# Altium footprint library SamacSys.PcbLib: 17 footprints (part 1 of 2)
Each footprint in its own frame and in the unit in brackets; x right, y up, seen from the top. Pads: shape width x height; smd on the part's side, far side on the other; paste and mask are expansions set on the pad; w line width, h text height; cw(c..) or ccw(c..) is an arc to the next point about the centre after c.
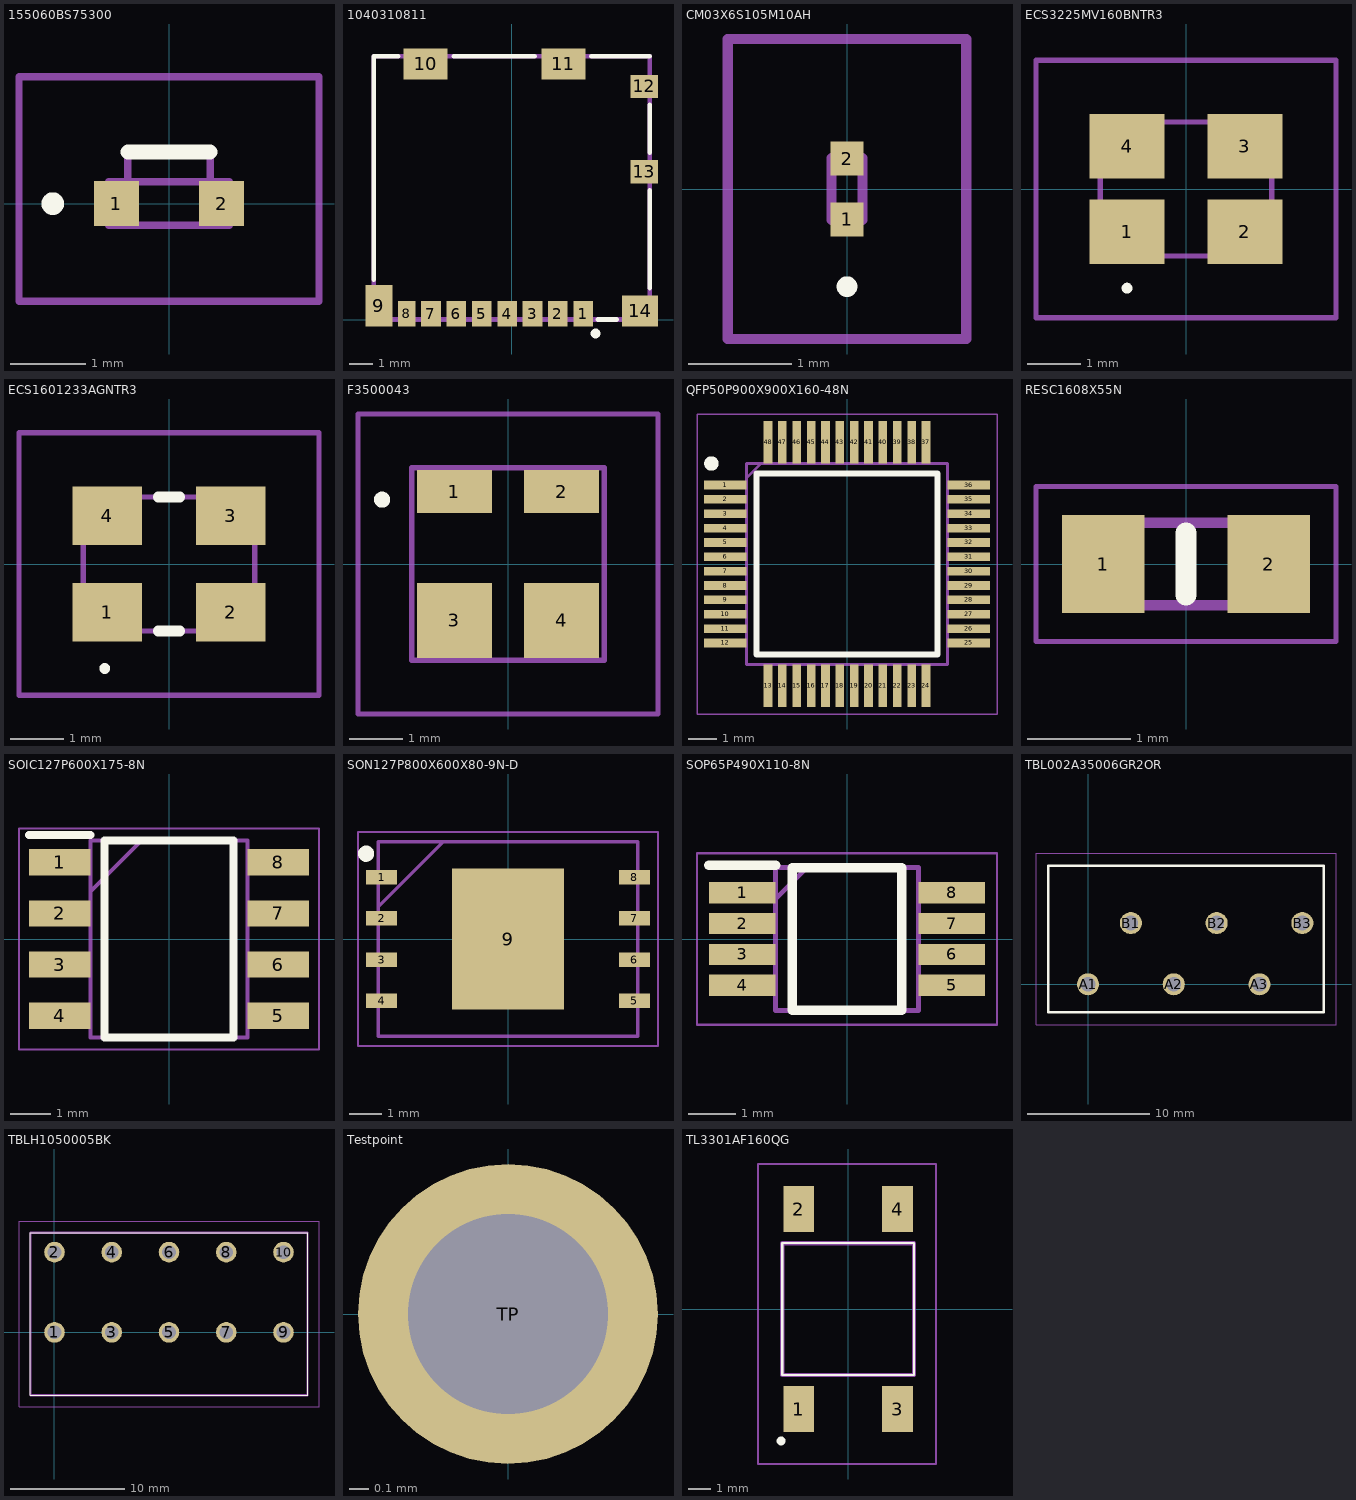
[diagram p0: the footprints below, top view; thin cyan lines are the x and y axes]

## 155060BS75300 [mm]
pads (2):
  rect 0.6x0.6 smd: 1(-0.7,0) 2(0.7,0)
Top Overlay:
  lines w0.2: -0.55,0.69 0.55,0.69 ; -1.6,0 cw(c-1.55,0) -1.5,0 ; -1.6,0 ccw(c-1.55,0) -1.5,0 ; -1.6,0 -1.5,0
Mechanical 13:
  lines w0.1: -0.8,-0.29 -0.8,0.29 0.8,0.29 0.8,-0.29 -0.8,-0.29 ; -0.55,0.29 -0.55,0.69 0.55,0.69 0.55,0.29 -0.55,0.29
Mechanical 15:
  lines w0.1: -2,-1.3 -2,1.69 2,1.69 2,-1.3 -2,-1.3
3D body "155060BS75300.stp": height 1, standoff 0, extent -0.8,-0.31 0.8,0.69

## 1040310811 [mm]
pads (14):
  rect 0.85x1.1 smd: 1(3.105,0.25) 2(2.005,0.25) 3(0.905,0.25) 4(-0.195,0.25) 5(-1.295,0.25) 6(-2.395,0.25) 7(-3.495,0.25)
  rect 0.75x1.1 smd: 8(-4.545,0.25)
  rect 1.17x1.8 smd: 9(-5.755,0.6)
  rect 1.9x1.35 smd: 10(-3.73,11.075) 11(2.24,11.075)
  rect 1.2x1 smd: 12(5.74,10.1) 13(5.74,6.4)
  rect 1.55x1.35 smd: 14(5.565,0.375)
Top Overlay:
  circle w0.2: c3.634,-0.605 r0.113
  lines w0.2: -5.975,1.721 -5.975,11.4 -4.914,11.4 ; -2.5,11.4 1,11.4 ; 3.455,11.4 5.975,11.4 ; 3.739,0 4.56,0 ; 5.975,1.367 5.975,5.601 ; 5.975,7.216 5.975,9.297
Mechanical 13:
  lines w0.2: -5.975,0 5.975,0 5.975,11.4 -5.975,11.4 -5.975,0
3D body "104031-0811.stp": height 1.45, standoff 0, extent -5.975,-0.043 5.975,11.357

## CM03X6S105M10AH [mm]
pads (2):
  rect 0.32x0.33 smd: 1(0,-0.295) 2(0,0.295)
Top Overlay:
  lines w0.1: 0,-1 cw(c0,-0.95) 0,-0.9 cw(c0,-0.95) 0,-1
Mechanical 13:
  lines w0.1: -0.15,-0.3 -0.15,0.3 0.15,0.3 0.15,-0.3 -0.15,-0.3
Mechanical 15:
  lines w0.1: -1.16,-1.46 -1.16,1.46 1.16,1.46 1.16,-1.46 -1.16,-1.46

## ECS3225MV160BNTR3 [mm]
pads (4):
  rect 1.4x1.2 smd: 1(-1.1,-0.8) 2(1.1,-0.8) 3(1.1,0.8) 4(-1.1,0.8)
Top Overlay:
  lines w0.1: -1.1,-1.9 cw(c-1.1,-1.85) -1.1,-1.8 cw(c-1.1,-1.85) -1.1,-1.9
Mechanical 13:
  lines w0.1: -1.6,-1.25 -1.6,1.25 1.6,1.25 1.6,-1.25 -1.6,-1.25
Mechanical 15:
  lines w0.1: -2.8,-2.4 -2.8,2.4 2.8,2.4 2.8,-2.4 -2.8,-2.4
3D body "ECS-3225MV-160-BN-TR3.stp": height 1.3, standoff 0, extent -1.68,-1.28 1.68,1.28

## ECS1601233AGNTR3 [mm]
pads (4):
  rect 1.3x1.1 smd: 1(-1.15,-0.9) 2(1.15,-0.9) 3(1.15,0.9) 4(-1.15,0.9)
Top Overlay:
  lines w0.1: -1.2,-2 cw(c-1.2,-1.95) -1.2,-1.9 cw(c-1.2,-1.95) -1.2,-2
  lines w0.2: -0.2,-1.25 0.2,-1.25 ; -0.2,1.25 0.2,1.25
Mechanical 13:
  lines w0.1: -1.6,-1.25 -1.6,1.25 1.6,1.25 1.6,-1.25 -1.6,-1.25
Mechanical 15:
  lines w0.1: -2.8,-2.45 -2.8,2.45 2.8,2.45 2.8,-2.45 -2.8,-2.45
3D body "ECS-160-12-33-AGN-TR3.stp": height 0.9, standoff 0, extent -1.69,-1.34 1.69,1.34

## F3500043 [mm]
pads (4):
  rect 1.4x0.8 smd: 1(-1,1.35) 2(1,1.35)
  rect 1.4x1.4 smd: 3(-1,-1.05) 4(1,-1.05)
Top Overlay:
  lines w0.2: -2.4,1.2 ccw(c-2.35,1.2) -2.3,1.2 ; -2.4,1.2 cw(c-2.35,1.2) -2.3,1.2 ; -2.4,1.2 ccw(c-2.35,1.2) -2.3,1.2
Mechanical 13:
  lines w0.1: -1.8,-1.8 -1.8,1.8 1.8,1.8 1.8,-1.8 -1.8,-1.8
Mechanical 15:
  lines w0.1: -2.8,-2.8 -2.8,2.8 2.8,2.8 2.8,-2.8 -2.8,-2.8
3D body "F.35.00043.stp": height 1.71, standoff 0, extent -1.8,-1.8 1.8,1.8

## PCBComponent_1 [mm]

## QFP50P900X900X160-48N [mm]
pads (48):
  rect 1.475x0.3 smd: 1(-4.238,2.75) 2(-4.238,2.25) 3(-4.238,1.75) 4(-4.238,1.25) 5(-4.238,0.75) 6(-4.238,0.25) 7(-4.238,-0.25) 8(-4.238,-0.75) 9(-4.238,-1.25) 10(-4.238,-1.75) 11(-4.238,-2.25) 12(-4.238,-2.75) 25(4.238,-2.75) 26(4.238,-2.25) 27(4.238,-1.75) 28(4.238,-1.25) 29(4.238,-0.75) 30(4.238,-0.25) 31(4.238,0.25) 32(4.238,0.75) 33(4.238,1.25) 34(4.238,1.75) 35(4.238,2.25) 36(4.238,2.75)
  rect 0.3x1.475 smd: 13(-2.75,-4.238) 14(-2.25,-4.238) 15(-1.75,-4.238) 16(-1.25,-4.238) 17(-0.75,-4.238) 18(-0.25,-4.238) 19(0.25,-4.238) 20(0.75,-4.238) 21(1.25,-4.238) 22(1.75,-4.238) 23(2.25,-4.238) 24(2.75,-4.238) 37(2.75,4.238) 38(2.25,4.238) 39(1.75,4.238) 40(1.25,4.238) 41(0.75,4.238) 42(0.25,4.238) 43(-0.25,4.238) 44(-0.75,4.238) 45(-1.25,4.238) 46(-1.75,4.238) 47(-2.25,4.238) 48(-2.75,4.238)
Top Overlay:
  circle w0.25: c-4.725,3.5 r0.125
  lines w0.2: -3.15,-3.15 3.15,-3.15 3.15,3.15 -3.15,3.15 -3.15,-3.15
Mechanical 13:
  lines w0.1: -3.5,3 -3,3.5 ; -3.5,-3.5 3.5,-3.5 3.5,3.5 -3.5,3.5 -3.5,-3.5
Mechanical 15:
  lines w0.05: -5.225,-5.225 5.225,-5.225 5.225,5.225 -5.225,5.225 -5.225,-5.225
3D body "STM32L443CCT6.stp": height 1.6, standoff 0, extent -4.5,-4.5 4.5,4.5

## RESC1608X55N [mm]
pads (2):
  rect 0.8x0.95 smd: 1(-0.8,0) 2(0.8,0)
Top Overlay:
  lines w0.2: 0,-0.3 0,0.3
Mechanical 13:
  lines w0.1: -0.8,-0.4 -0.8,0.4 0.8,0.4 0.8,-0.4 -0.8,-0.4
Mechanical 15:
  lines w0.05: -1.45,-0.75 -1.45,0.75 1.45,0.75 1.45,-0.75 -1.45,-0.75
3D body "RT0603DRD07320KL.stp": height 0.55, standoff 0, extent -0.8,-0.4 0.8,0.4

## SOIC127P600X175-8N [mm]
pads (8):
  rect 1.525x0.65 smd: 1(-2.712,1.905) 2(-2.712,0.635) 3(-2.712,-0.635) 4(-2.712,-1.905) 5(2.712,-1.905) 6(2.712,-0.635) 7(2.712,0.635) 8(2.712,1.905)
Top Overlay:
  lines w0.2: -3.475,2.58 -1.95,2.58 ; -1.6,-2.45 1.6,-2.45 1.6,2.45 -1.6,2.45 -1.6,-2.45
Mechanical 13:
  lines w0.1: -1.95,1.18 -0.68,2.45 ; -1.95,-2.45 1.95,-2.45 1.95,2.45 -1.95,2.45 -1.95,-2.45
Mechanical 15:
  lines w0.05: -3.725,-2.75 3.725,-2.75 3.725,2.75 -3.725,2.75 -3.725,-2.75
3D body "NE555DR.stp": height 1.75, standoff 0, extent -3,-2.45 3,2.45

## SON127P800X600X80-9N-D [mm]
pads (9):
  rect 0.95x0.45 smd: 1(-3.9,1.905) 2(-3.9,0.635) 3(-3.9,-0.635) 4(-3.9,-1.905) 5(3.9,-1.905) 6(3.9,-0.635) 7(3.9,0.635) 8(3.9,1.905)
  rect 3.45x4.35 smd: 9(0,0)
Top Overlay:
  circle w0.25: c-4.375,2.63 r0.125
Mechanical 13:
  lines w0.1: -4,1 -2,3 ; -4,-3 -4,3 4,3 4,-3 -4,-3
Mechanical 15:
  lines w0.05: -4.625,-3.3 -4.625,3.3 4.625,3.3 4.625,-3.3 -4.625,-3.3
3D body "W25N01GVZEIG_TR.stp": height 0.8, standoff 0, extent -4.05,-3 4.05,3

## SOP65P490X110-8N [mm]
pads (8):
  rect 1.4x0.45 smd: 1(-2.2,0.975) 2(-2.2,0.325) 3(-2.2,-0.325) 4(-2.2,-0.975) 5(2.2,-0.975) 6(2.2,-0.325) 7(2.2,0.325) 8(2.2,0.975)
Top Overlay:
  lines w0.2: -2.9,1.55 -1.5,1.55 ; -1.15,-1.5 -1.15,1.5 1.15,1.5 1.15,-1.5 -1.15,-1.5
Mechanical 13:
  lines w0.1: -1.5,0.85 -0.85,1.5 ; -1.5,-1.5 -1.5,1.5 1.5,1.5 1.5,-1.5 -1.5,-1.5
Mechanical 15:
  lines w0.05: -3.15,-1.8 -3.15,1.8 3.15,1.8 3.15,-1.8 -3.15,-1.8
3D body "INA321E_250.stp": height 1.1, standoff 0, extent -2.451,-1.499 2.451,1.499

## TBL002A35006GR2OR [mm]
pads (6):
  round 1.8 hole 1.2: A1(0,0) A2(7,0) A3(14,0) B1(3.5,5) B2(10.5,5) B3(17.5,5)
Top Overlay:
  lines w0.2: -3.25,-2.3 -3.25,9.7 19.25,9.7 19.25,-2.3 -3.25,-2.3
Mechanical 13:
  lines w0.1: -3.25,-2.3 -3.25,9.7 19.25,9.7 19.25,-2.3 -3.25,-2.3
Mechanical 15:
  lines w0.1: -4.25,-3.3 -4.25,10.7 20.25,10.7 20.25,-3.3 -4.25,-3.3
3D body "TBL002A-350-06GR-2OR.stp": height 13.35, standoff -5, extent -3.25,-2.3 19.25,9.7

## TBLH1050005BK [mm]
pads (10):
  round 1.8 hole 1.2: 1(0,0) 2(0,7) 3(5,0) 4(5,7) 5(10,0) 6(10,7) 7(15,0) 8(15,7) 9(20,0) 10(20,7)
Top Overlay:
  lines w0.1: -2.1,-5.5 -2.1,8.7 22.1,8.7 22.1,-5.5 -2.1,-5.5
Mechanical 13:
  lines w0.2: -2.1,-5.5 -2.1,8.7 22.1,8.7 22.1,-5.5 -2.1,-5.5
Mechanical 15:
  lines w0.1: -3.1,-6.5 -3.1,9.7 23.1,9.7 23.1,-6.5 -3.1,-6.5
3D body "TBLH10-500-05BK.stp": height 8.9, standoff -5, extent -2.1,-5.5 22.1,8.7

## Testpoint [mil] "Test point"
pads (1):
  round 60 hole 40: TP(0,0)

## TL3301AF160QG [mm]
pads (4):
  rect 1.4x2.1 smd: 1(-2.25,-4.55) 2(-2.25,4.55) 3(2.25,-4.55) 4(2.25,4.55)
Top Overlay:
  lines w0.1: -3,-3 -3,3 3,3 3,-3 -3,-3
  lines w0.3: -3.1,-6 ccw(c-3.05,-6) -3,-6 ccw(c-3.05,-6) -3.1,-6
Mechanical 13:
  lines w0.2: -3,-3 -3,3 3,3 3,-3 -3,-3
Mechanical 15:
  lines w0.1: -4.1,-7.05 -4.1,6.6 4,6.6 4,-7.05 -4.1,-7.05
3D body "TL3301AF160QG.stp": height 5.12, standoff 0.02, extent -3,-5 3,5